# Altium schematic symbol library StartSym.SchLib: 1 symbol
Pins are listed as number, name and electrical type; pins without a type are passive.

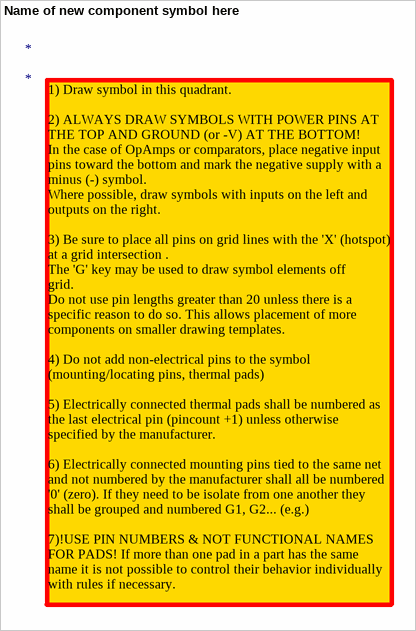
[diagram p0: symbol Name of new component symbol here]

## Name of new component symbol here
designator *
text: 1) Draw symbol in this quadrant. / 2) ALWAYS DRAW SYMBOLS WITH POWER PINS AT THE TOP AND GROUND (or -V) AT THE BOTTOM! / In the case of OpAmps or comparators, place negative input pins toward the bottom and mark the negative supply with a minus (-) symbol. / Where possible, draw symbols with inputs on the left and outputs on the right. / 3) Be sure to place all pins on grid lines with the 'X' (hotspot) at a grid intersection . / The 'G' key may be used to draw symbol elements off / grid. / Do not use pin lengths greater than 20 unless there is a specific reason to do so. This allows placement of more components on smaller drawing templates. / 4) Do not add non-electrical pins to the symbol (mounting/locating pins, thermal pads) / 5) Electrically connected thermal pads shall be numbered as the last electrical pin (pincount +1) unless otherwise specified by the manufacturer. / 6) Electrically connected mounting pins tied to the same net and not numbered by the manufacturer shall all be numbered '0' (zero). If they need to be isolate from one another they shall be grouped and numbered G1, G2... (e.g.) / 7)!USE PIN NUMBERS & NOT FUNCTIONAL NAMES FOR PADS! If more than one pad in a part has the same name it is not possible to control their behavior individually with rules if necessary. /